# Altium footprint library Devindia_v4.0.PcbLib: 116 footprints (part 6 of 8)
Each footprint in its own frame and in the unit in brackets; x right, y up, seen from the top. Pads: shape width x height; smd on the part's side, far side on the other; paste and mask are expansions set on the pad; w line width, h text height; cw(c..) or ccw(c..) is an arc to the next point about the centre after c.
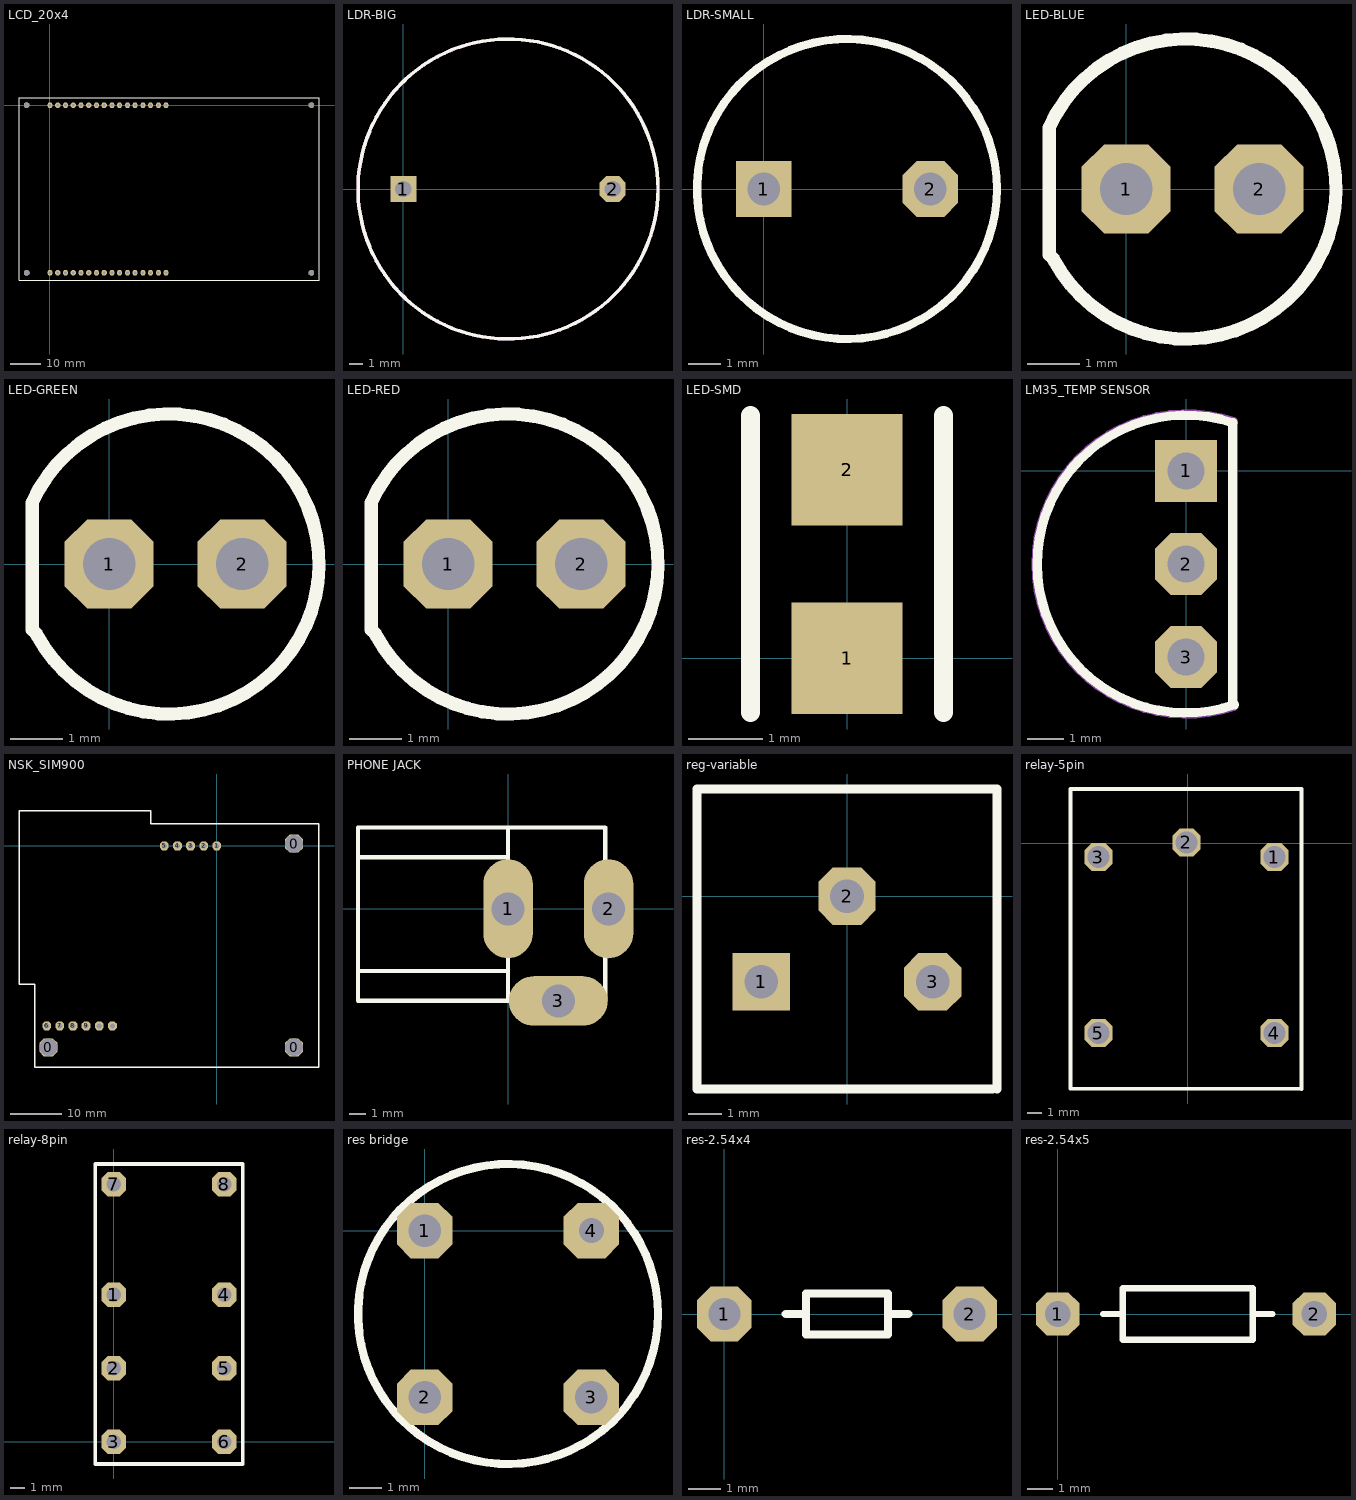
[diagram p5: the footprints below, top view; thin cyan lines are the x and y axes]

## LCD_20x4 [mm]
pads (36):
  oct 1.8x1.8 hole 1.7: 0(-7.66,0.04) 0(-7.62,-54.96) 0(85.765,-54.96) 0(85.765,0.04)
  oct 1.7x1.7 hole 0.9: 1(0,-54.92) 1(0,0) 2(2.54,-54.92) 2(2.54,0) 3(5.08,-54.92) 3(5.08,0) 4(7.62,-54.92) 4(7.62,0) 5(10.16,-54.92) 5(10.16,0) 6(12.7,-54.92) 6(12.7,0) 7(15.24,-54.92) 7(15.24,0) 8(17.78,-54.92) 8(17.78,0) 9(20.32,-54.92) 9(20.32,0) 10(22.86,-54.92) 10(22.86,0) 11(25.4,-54.92) 11(25.4,0) 12(27.94,-54.92) 12(27.94,0) 13(30.48,-54.92) 13(30.48,0) 14(33.02,-54.92) 14(33.02,0) 15(35.56,-54.92) 15(35.56,0) 16(38.1,-54.92) 16(38.1,0)
Top Overlay:
  lines w0.254: -10.16,-57.46 88.265,-57.46 88.265,2.54 -10.16,2.54 -10.16,-57.46
3D body: height 10.8, standoff 0, extent -0.572,-0.536 0.425,0.462
3D body: height 10.8, standoff 0, extent 2.095,-0.409 3.092,0.589
3D body: height 10.8, standoff 0, extent 4.508,-0.536 5.505,0.462
3D body: height 10.8, standoff 0, extent 7.048,-0.409 8.045,0.589
3D body: height 10.8, standoff 0, extent 9.716,-0.409 10.712,0.589
3D body: height 10.8, standoff 0, extent 12.128,-0.536 13.125,0.462
3D body: height 10.8, standoff 0, extent 14.795,-0.409 15.792,0.589
3D body: height 10.8, standoff 0, extent 17.335,-0.409 18.332,0.589
3D body: height 10.8, standoff 0, extent 19.875,-0.536 20.872,0.462
3D body: height 10.8, standoff 0, extent 22.415,-0.409 23.412,0.589
3D body: height 10.8, standoff 0, extent 24.956,-0.409 25.952,0.589
3D body: height 10.8, standoff 0, extent 27.495,-0.409 28.492,0.589
3D body: height 10.8, standoff 0, extent 30.035,-0.536 31.032,0.462
3D body: height 10.8, standoff 0, extent 32.575,-0.409 33.572,0.589
3D body: height 10.8, standoff 0, extent 35.115,-0.409 36.112,0.589
3D body: height 10.8, standoff 0, extent 37.655,-0.409 38.652,0.589
3D body: height 10.8, standoff 0, extent -0.445,-55.4 0.552,-54.402
3D body: height 10.8, standoff 0, extent 2.095,-55.4 3.092,-54.402
3D body: height 10.8, standoff 0, extent 4.635,-55.4 5.632,-54.402
3D body: height 10.8, standoff 0, extent 7.175,-55.4 8.172,-54.402
3D body: height 10.8, standoff 0, extent 9.716,-55.4 10.712,-54.402
3D body: height 10.8, standoff 0, extent 12.128,-55.4 13.125,-54.402
3D body: height 10.8, standoff 0, extent 14.795,-55.4 15.792,-54.402
3D body: height 10.8, standoff 0, extent 17.335,-55.4 18.332,-54.402
3D body: height 10.8, standoff 0, extent 19.875,-55.4 20.872,-54.402
3D body: height 10.8, standoff 0, extent 22.415,-55.4 23.412,-54.402
3D body: height 10.8, standoff 0, extent 24.956,-55.4 25.952,-54.402
3D body: height 10.8, standoff 0, extent 27.495,-55.4 28.492,-54.402
3D body: height 10.8, standoff 0, extent 30.035,-55.4 31.032,-54.402
3D body: height 10.8, standoff 0, extent 32.575,-55.4 33.572,-54.402
3D body: height 10.8, standoff 0, extent 35.115,-55.4 36.112,-54.402
3D body: height 10.8, standoff 0, extent 37.655,-55.4 38.652,-54.402
3D body: height 12, standoff 10.5
3D body: height 12, standoff 10.5, extent -10.223,-57.686 88.963,2.512
3D body: height 20.5, standoff 12, extent -7.938,-46.637 86.169,-7.775
3D body: height 21, standoff 20.5, extent 2.857,-38.89 75.882,-16.03
3D body: height 12.5, standoff 12, extent -8.954,-56.416 -5.965,-53.422
3D body: height 12.5, standoff 12, extent 84.391,-56.162 87.38,-53.168
3D body: height 12.5, standoff 12, extent 84.138,-1.552 87.126,1.442
3D body: height 12.5, standoff 12, extent -8.7,-1.425 -5.711,1.569

## LDR-BIG [mm]
pads (2):
  rect 1.9x1.9 hole 1.2: 1(0,0)
  oct 1.9x1.9 hole 1.2: 2(15.24,0)
Top Overlay:
  circle w0.254: c7.62,0 r10.922
Mechanical 1:
  circle w0.254: c7.62,0 r10.922
3D body: height 5.3, standoff 5.1, extent 14.224,-7.366 14.986,6.35
3D body: height 5.3, standoff 5.1, extent 11.684,-9.398 12.446,9.144
3D body: height 5.3, standoff 5.1, extent 9.144,-10.668 9.906,10.668
3D body: height 5.3, standoff 5.1, extent 0,-7.112 0.762,6.604
3D body: height 5.3, standoff 5.1, extent 3.048,-8.382 3.81,8.636
3D body: height 5.3, standoff 5.1, extent 5.08,-10.922 5.842,10.414
3D body: height 5.3, standoff 5.1, extent 7.366,-10.414 7.874,10.922
3D body: height 4, standoff 0, extent 14.732,-0.498 15.73,0.498
3D body: height 4, standoff 0, extent -0.508,-0.508 0.49,0.488
3D body: height 5.2, standoff 5.1, extent -3.258,-10.922 18.498,10.792
3D body: height 5, standoff 4, extent -3.258,-10.922 18.498,10.792

## LDR-SMALL [mm]
pads (2):
  rect 1.7x1.7 hole 1: 1(0,0)
  oct 1.7x1.7 hole 1: 2(5.08,0)
Top Overlay:
  circle w0.254: c2.54,0 r4.572
3D body: height 5.1, standoff 5, extent -1.853,-4.482 7.13,4.482
3D body: height 4, standoff 0, extent 4.572,-0.508 5.57,0.488
3D body: height 4, standoff 0, extent -0.508,-0.508 0.49,0.488
3D body: height 5, standoff 4, extent -1.853,-4.491 7.112,4.491
3D body: height 5.3, standoff 5.1, extent -0.762,-1.661 -0.508,1.641
3D body: height 5.3, standoff 5.1, extent 5.842,-2.032 6.096,1.27
3D body: height 5.3, standoff 5.1, extent 5.08,-2.286 5.334,2.032
3D body: height 5.3, standoff 5.1, extent 4.318,-2.794 4.572,2.54
3D body: height 5.3, standoff 5.1, extent 3.556,-3.048 3.81,2.794
3D body: height 5.3, standoff 5.1, extent 2.286,-2.921 2.54,2.921
3D body: height 5.3, standoff 5.1, extent 0.762,-2.667 1.016,2.667
3D body: height 5.3, standoff 5.1, extent 0,-2.159 0.254,2.159

## LED-BLUE [mm]
pads (2):
  oct 1.7x1.7 hole 1: 1(0,0) 2(2.54,0)
Top Overlay:
  lines w0.254: -1.47,-1.257 -1.47,1.176 cw(c1.143,0) -1.393,-1.334
3D body: height 1, standoff 0, extent -1.641,-2.667 3.937,2.921
3D body: height 9, standoff 4, extent -1.344,-2.402 3.63,2.577
3D body: height 6.5, standoff 1, extent -1.347,-2.413 3.633,2.577

## LED-GREEN [mm]
pads (2):
  oct 1.7x1.7 hole 1: 1(0,0) 2(2.54,0)
Top Overlay:
  lines w0.254: -1.47,-1.257 -1.47,1.176 cw(c1.143,0) -1.393,-1.334
3D body: height 1, standoff 0, extent -1.641,-2.667 3.937,2.921
3D body: height 9, standoff 4, extent -1.344,-2.402 3.63,2.577
3D body: height 6.5, standoff 1, extent -1.347,-2.413 3.633,2.577

## LED-RED [mm]
pads (2):
  oct 1.7x1.7 hole 1: 1(0,0) 2(2.54,0)
Top Overlay:
  lines w0.254: -1.47,-1.257 -1.47,1.176 cw(c1.143,0) -1.393,-1.334
3D body: height 1, standoff 0, extent -1.641,-2.667 3.937,2.921
3D body: height 9, standoff 4, extent -1.344,-2.402 3.63,2.577
3D body: height 6.5, standoff 1, extent -1.347,-2.413 3.633,2.577

## LED-SMD [mm]
pads (2):
  rect 1.5x1.5 all layers, no hole: 1(0,0) 2(0,2.54)
Top Overlay:
  lines w0.254: -1.3,-0.73 -1.3,3.27 ; 1.3,-0.73 1.3,3.27
3D body: height 0.05, standoff -0.05, extent 0.762,0.258 0.862,0.758
3D body: height 1.15, standoff 0, extent -0.762,0 0.762,2.54

## LM35_TEMP SENSOR [mm]
pads (3):
  rect 1.7x1.7 hole 1: 1(0,0)
  oct 1.7x1.7 hole 1: 2(0,-2.54) 3(0,-5.08)
Top Overlay:
  lines w0.254: 1.27,-6.35 1.27,0.635 1.27,1.27 ; 1.285,1.315 ccw(c0,-2.54) 1.325,-6.382
Mechanical 1:
  lines w0.254: 1.295,-6.425 cw(c0,-2.54) 1.295,1.345 1.295,-6.425
3D body: height 3, standoff 0, extent -0.498,-5.588 0.498,-4.59
3D body: height 3, standoff 0, extent -0.498,-3.048 0.498,-2.05
3D body: height 3, standoff 0, extent -0.498,-0.508 0.498,0.49
3D body: height 7, standoff 3, extent -4.109,-6.649 1.299,1.569

## NSK_SIM900 [mm] "MODEM"
pads (14):
  oct 3.5x3.5 hole 3.44: 0(-32.574,-38.94) 0(14.924,-38.94) 0(14.924,0.43)
  oct 1.7x1.7 hole 1: 1(0,0) 2(-2.54,0) 3(-5.08,0) 4(-7.62,0) 5(-10.16,0) 6(-32.893,-34.798) 7(-30.353,-34.798) 8(-27.813,-34.798) 9(-25.273,-34.798) 10(-22.733,-34.798) 11(-20.193,-34.798)
Top Overlay:
  lines w0.254: 19.75,4.24 19.75,-42.75 -35.25,-42.75 -35.25,-26.75 -38.25,-26.75 -38.25,6.75 -12.75,6.75 -12.75,4.25 19.75,4.25
3D body: height 11, standoff 9, extent 15.808,-21.564 17.058,-19.064
3D body: height 11, standoff 9, extent 15.808,-19.064 17.058,-17.814
3D body: height 11, standoff 9, extent 15.808,-22.814 17.058,-21.564
3D body: height 11, standoff 9, extent 15.884,-33.19 17.134,-30.69
3D body: height 11, standoff 9, extent 15.884,-30.69 17.134,-29.44
3D body: height 11, standoff 9, extent 15.884,-34.44 17.134,-33.19
3D body: height 12, standoff 11, extent -24.861,-3.603 -23.611,-1.103
3D body: height 12, standoff 11, extent -24.861,-1.103 -23.611,0.147
3D body: height 12, standoff 11, extent -24.861,-4.853 -23.611,-3.603
3D body: height 12, standoff 11, extent -24.861,-11.375 -23.611,-8.875
3D body: height 12, standoff 11, extent -24.861,-8.875 -23.611,-7.625
3D body: height 12, standoff 11, extent -24.861,-12.625 -23.611,-11.375
3D body: height 12, standoff 11, extent -24.861,-18.411 -23.611,-15.911
3D body: height 12, standoff 11, extent -24.861,-15.911 -23.611,-14.661
3D body: height 12, standoff 11, extent -24.861,-19.661 -23.611,-18.411
3D body: height 12, standoff 11, extent -18.003,-3.603 -16.753,-1.103
3D body: height 12, standoff 11, extent -18.003,-1.103 -16.753,0.147
3D body: height 12, standoff 11, extent -18.003,-4.853 -16.753,-3.603
3D body: height 12.5, standoff 10.5, extent -6.158,-34.368 10.86,-17.35
3D body: height 12, standoff 11, extent -17.775,-19.596 -16.525,-18.346
3D body: height 12, standoff 11, extent -17.775,-15.846 -16.525,-14.596
3D body: height 12, standoff 11, extent -17.775,-18.346 -16.525,-15.846
3D body: height 10.99, standoff 9, extent -37.687,6.75 -35.691,7.75
3D body: height 12.5, standoff 11.5, extent -0.486,-0.498 0.509,0.498
3D body: height 12, standoff 0, extent -10.649,-0.498 -9.651,0.498
3D body: height 12, standoff 0, extent -8.109,-0.498 -7.111,0.498
3D body: height 12, standoff 0, extent -5.569,-0.498 -4.571,0.498
3D body: height 12, standoff 0, extent -3.029,-0.498 -2.031,0.498
3D body: height 12, standoff 0, extent -0.489,-0.498 0.509,0.498
3D body: height 12, standoff 0, extent -33.402,-35.296 -32.404,-34.3
3D body: height 12, standoff 0, extent -30.862,-35.296 -29.864,-34.3
3D body: height 12, standoff 0, extent -28.322,-35.296 -27.324,-34.3
3D body: height 12, standoff 0, extent -25.782,-35.296 -24.784,-34.3
3D body: height 12, standoff 0, extent -23.242,-35.296 -22.244,-34.3
3D body: height 12, standoff 0, extent -20.702,-35.296 -19.704,-34.3
3D body: height 11.5, standoff 9.5, extent -35.25,-42.75 19.75,4.25
3D body: height 11, standoff 9, extent -38.25,-1.25 -35.25,6.75
3D body: height 12.5, standoff 11.5, extent -3.026,-0.498 -2.031,0.498
3D body: height 12.5, standoff 11.5, extent -5.566,-0.498 -4.571,0.498
3D body: height 12.5, standoff 11.5, extent -8.106,-0.498 -7.111,0.498
3D body: height 12.5, standoff 11.5, extent -10.646,-0.498 -9.651,0.498
3D body: height 12.5, standoff 11.5, extent -20.702,-35.296 -19.707,-34.3
3D body: height 12.5, standoff 11.5, extent -23.242,-35.296 -22.247,-34.3
3D body: height 12.5, standoff 11.5, extent -25.782,-35.296 -24.787,-34.3
3D body: height 12.5, standoff 11.5, extent -28.322,-35.296 -27.327,-34.3
3D body: height 12.5, standoff 11.5, extent -30.862,-35.296 -29.867,-34.3
3D body: height 12.5, standoff 11.5, extent -33.402,-35.296 -32.407,-34.3
3D body: height 11, standoff 9, extent -38.25,-26.75 -12.737,6.75
3D body: height 13, standoff 12, extent -5,-21.1 -3.1,-18.5

## PHONE JACK [mm]
pads (3):
  oval 3x6 hole 2: 1(0,0) 2(6.096,0)
  oval 6x3 hole 2: 3(3.048,-5.588)
Top Overlay:
  lines w0.254: -9.1,-3.776 0,-3.776 ; -9.1,3.124 0,3.124 ; 0,-5.576 0,4.924 ; -9.1,-5.576 -9.1,4.924 5.9,4.924 5.9,-5.576 -9.1,-5.576
3D body: height 8.5, standoff 6.4, extent -9.144,-5.715 -6.604,4.953
3D body: height 5.98, standoff 1, extent -9.174,-2.667 6.126,2.323
3D body: height 6.5, standoff 1, extent -9.144,-5.715 7.632,4.881
3D body: height 8.97, standoff 1, extent -6.592,-4.191 7.608,3.793

## reg-variable [mm]
pads (3):
  rect 1.7x1.7 hole 1: 1(-2.54,-2.54)
  oct 1.7x1.7 hole 1: 2(0,0) 3(2.54,-2.54)
Top Overlay:
  lines w0.254: 4.318,-5.715 -4.445,-5.715 -4.445,3.175 4.445,3.175 4.445,-5.715
3D body: height 5.1, standoff 4.9, extent -2.54,-1.905 2.419,-0.841
3D body: height 5.01, standoff 5, extent -2.54,-3.81 2.45,1.17
3D body: height 5, standoff 2, extent -4.445,-5.715 4.445,3.175
3D body: height 2, standoff 0, extent -0.508,-0.508 0.488,0.49
3D body: height 2, standoff 0, extent -3.048,-3.039 -2.052,-2.041
3D body: height 2, standoff 0, extent 2.032,-3.048 3.028,-2.05

## relay-5pin [mm]
pads (5):
  oct 1.9x1.9 hole 1.5: 1(5.904,-0.954) 2(-0.096,0.046) 3(-6.096,-0.954) 4(5.904,-12.954) 5(-6.096,-12.954)
Top Overlay:
  lines w0.254: -8.001,3.556 -8.001,1.238 -8.001,-16.739 7.747,-16.739 ; -8.001,3.683 7.747,3.683 7.747,1.905 ; 7.747,-16.764 7.747,-14.732 ; 7.747,-14.674 7.747,1.956
3D body: height 17, standoff 2, extent -8.001,-16.764 7.874,5.016
3D body: height 17.2, standoff 17, extent -6.457,2.685 -5.461,3.683

## relay-8pin [mm]
pads (8):
  oct 1.7x1.7 hole 1: 1(0,10.16) 2(0,5.08) 3(0,0) 4(7.62,10.16) 5(7.62,5.08) 6(7.62,0) 7(0,17.78) 8(7.62,17.78)
Top Overlay:
  lines w0.254: -1.27,-1.524 8.89,-1.524 8.89,11.43 8.89,19.177 -1.27,19.177 -1.27,11.43 -1.27,-0.635 -1.27,-1.524
3D body: height 12.25, standoff 0, extent -1.27,-1.651 8.763,19.05
3D body: height 12.75, standoff 12.25, extent -0.381,17.272 0.615,18.27

## res bridge [mm]
pads (4):
  oct 1.7x1.7 hole 1: 1(0,0) 2(0,-5.08) 3(5.08,-5.08)
  oct 1.7x1.7 hole 0.762: 4(5.08,0)
Top Overlay:
  circle w0.254: c2.54,-2.54 r4.572
3D body: height 5.5, standoff 0.5, extent -2.032,-7.112 7.072,2.01

## res-2.54x4 [mm]
pads (2):
  oct 1.7x1.7 hole 1: 1(0,0) 2(7.62,0)
Top Overlay:
  lines w0.254: 1.905,0 2.54,0 ; 5.08,0 5.715,0 ; 2.54,-0.635 2.54,0.635 5.08,0.635 5.08,-0.635 2.54,-0.635
3D body: height 3, standoff 1, extent 0.5,-0.976 7.12,1.016
3D body: height 2.5, standoff 1.5, extent 7.112,-0.498 7.612,0.498
3D body: height 2.5, standoff 1.5, extent 0.008,-0.488 0.508,0.508
3D body: height 2.5, standoff 1.5, extent -0.508,-0.498 0.487,0.498
3D body: height 2.5, standoff 1.5, extent 7.112,-0.498 8.107,0.498
3D body: height 2, standoff 0, extent -0.508,-0.508 0.49,0.488
3D body: height 2, standoff 0, extent 7.112,-0.508 8.11,0.488
3D body: height 3.1, standoff 0.9, extent 4.125,-1.096 4.325,1.096
3D body: height 3.1, standoff 0.9, extent 5.617,-1.086 5.817,1.106
3D body: height 3.1, standoff 0.9, extent 4.867,-1.086 5.067,1.106
3D body: height 3.1, standoff 0.9, extent 1.117,-1.086 1.317,1.106

## res-2.54x5 [mm]
pads (2):
  oct 1.7x1.7 hole 1: 1(0,0) 2(10.033,0)
Top Overlay:
  lines w0.254: 1.778,0 2.54,0 ; 7.62,0 8.382,0 ; 2.54,-1.016 2.54,1.016 7.62,1.016 7.62,-1.016 2.54,-1.016
3D body: height 2.5, standoff 1.5, extent 8.382,-0.498 10.182,0.498
3D body: height 2.5, standoff 1.5, extent -0.011,-0.508 1.789,0.488
3D body: height 3, standoff 1, extent 1.762,-0.996 8.382,0.996
3D body: height 2, standoff 0, extent -0.508,-0.508 0.49,0.488
3D body: height 2, standoff 0, extent 9.534,-0.508 10.532,0.488
3D body: height 2.5, standoff 1.5, extent -0.487,-0.498 0.508,0.498
3D body: height 2.5, standoff 1.5, extent 9.525,-0.498 10.52,0.498